# Altium footprint library QFN-36(6.0X6.0).PcbLib: 1 footprints
Each footprint in its own frame and in the unit in brackets; x right, y up, seen from the top. Pads: shape width x height; smd on the part's side, far side on the other; paste and mask are expansions set on the pad; w line width, h text height; cw(c..) or ccw(c..) is an arc to the next point about the centre after c.
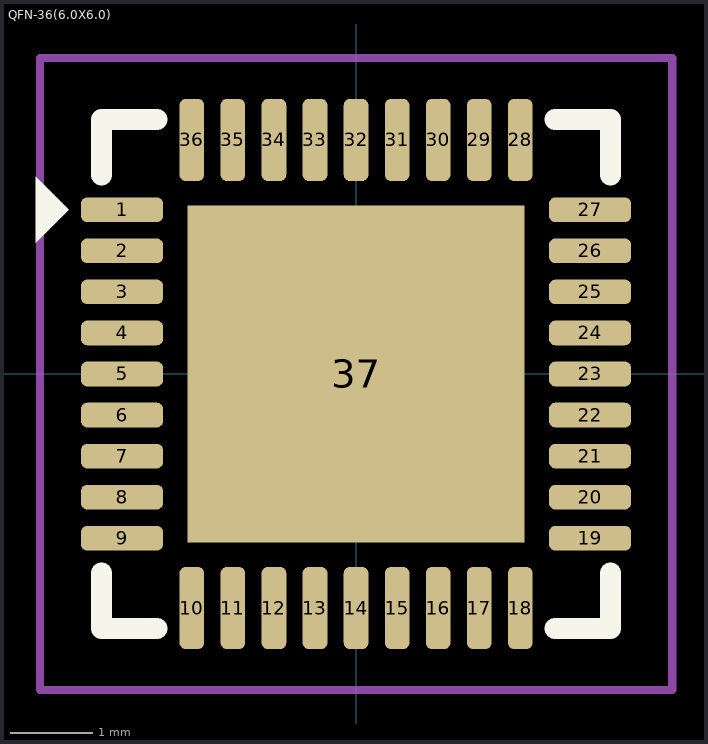
[diagram p0: the footprint, top view; thin cyan lines are the x and y axes]

## QFN-36(6.0X6.0) [mm]
pads (37):
  rrect50% 1x0.3 smd: 1(-2.85,2) 2(-2.85,1.5) 3(-2.85,1) 4(-2.85,0.5) 5(-2.85,0) 6(-2.85,-0.5) 7(-2.85,-1) 8(-2.85,-1.5) 9(-2.85,-2) 19(2.85,-2) 20(2.85,-1.5) 21(2.85,-1) 22(2.85,-0.5) 23(2.85,0) 24(2.85,0.5) 25(2.85,1) 26(2.85,1.5) 27(2.85,2)
  rrect50% 0.3x1 smd: 10(-2,-2.85) 11(-1.5,-2.85) 12(-1,-2.85) 13(-0.5,-2.85) 14(0,-2.85) 15(0.5,-2.85) 16(1,-2.85) 17(1.5,-2.85) 18(2,-2.85) 28(2,2.85) 29(1.5,2.85) 30(1,2.85) 31(0.5,2.85) 32(0,2.85) 33(-0.5,2.85) 34(-1,2.85) 35(-1.5,2.85) 36(-2,2.85)
  rect 4.1x4.1 smd: 37(0,0)
Top Overlay:
  region: -3.9,1.6 -3.9,2.4 -3.5,2
  lines w0.254: -3.1,-2.425 -3.1,-3.1 -2.425,-3.1 ; -3.1,2.425 -3.1,3.1 -2.425,3.1 ; 2.425,-3.1 3.1,-3.1 3.1,-2.425 ; 2.425,3.1 3.1,3.1 3.1,2.425
Top Courtyard:
  lines w0.1: -3.85,-3.85 3.85,-3.85 3.85,3.85 -3.85,3.85 -3.85,-3.85
3D body "ALSRobot-QFN36 6x6.STEP": height 0.9, standoff 0.01, extent -3.102,-3.103 3.103,3.102